# Altium schematic symbol library Inductance.SchLib: 1 symbol
Pins are listed as number, name and electrical type; pins without a type are passive.

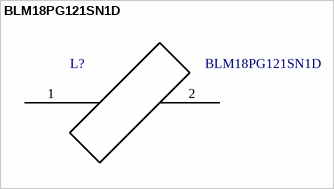
[diagram p0: symbol BLM18PG121SN1D]

## BLM18PG121SN1D
designator L?
FERRITE BEAD 120 OHM 0603 1LN; Manufacturer: Murata Electronics North America; Supplier 1: Farnell; Supplier Part Number 1: 1515738RL; Manufacturer Part Number: BLM18PG121SN1D; ComponentLink1URL: http://search.murata.co.jp/Ceramy/image/img/PDF/ENG/L0110S0100BLM18P.pdf; ComponentLink1Description: http://search.murata.co.jp/Ceramy/image/img/PDF/ENG/L0110S0100BLM18P.pdf
pins: 1, 2, 12 nc hidden